# Altium schematic symbol library MX-06.SchLib: 1 symbol
Pins are listed as number, name and electrical type; pins without a type are passive.

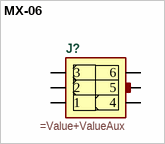
[diagram p0: symbol MX-06]

## MX-06
designator J?
=Description
pins: 1, 2, 3, 4, 5, 6